# EAGLE library part XC9572XL (library lightuino3.lbrlightuino3.1)
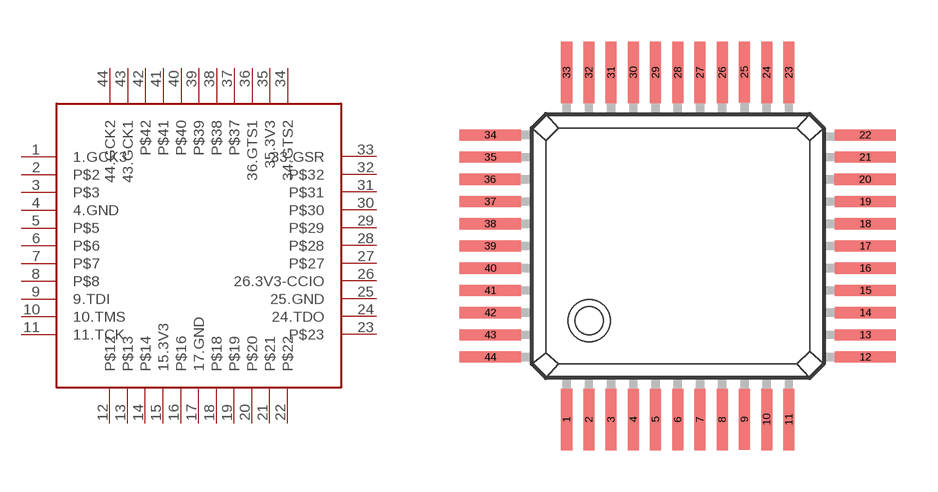
[diagram p9: symbol with the pads of QFP-44; footprint QFP-44]

Designator prefix -

## XC9572XL  [QFP-44]
1  1.GCK3
2  P$2
3  P$3
4  4.GND
5  P$5
6  P$6
7  P$7
8  P$8
9  9.TDI
10  10.TMS
11  11.TCK
12  P$12
13  P$13
14  P$14
15  15.3V3
16  P$16
17  17.GND
18  P$18
19  P$19
20  P$20
21  P$21
22  P$22
23  P$23
24  24.TDO
25  25.GND
26  26.3V3-CCIO
27  P$27
28  P$28
29  P$29
30  P$30
31  P$31
32  P$32
33  33.GSR
34  34.GTS2
35  35.3V3
36  36.GTS1
37  P$37
38  P$38
39  P$39
40  P$40
41  P$41
42  P$42
43  43.GCK1
44  44.GCK2

## Footprint QFP-44 (pad centres in mm)
Quad Flat Package
smd 0.4 x 2.2: 1 -4,-6.25; 2 -3.2,-6.25; 3 -2.4,-6.25; 4 -1.6,-6.25; 5 -0.8,-6.25; 6 0,-6.25; 7 0.8,-6.25; 8 1.6,-6.25; 9 2.4,-6.24; 10 3.2,-6.25; 11 4,-6.25; 23 4,6.25; 24 3.2,6.25; 25 2.4,6.26; 26 1.6,6.25; 27 0.8,6.25; 28 0,6.25; 29 -0.8,6.25; 30 -1.6,6.25; 31 -2.4,6.25; 32 -3.2,6.25; 33 -4,6.25
smd 2.2 x 0.4: 12 6.75,-4; 13 6.75,-3.2; 14 6.75,-2.4; 15 6.75,-1.6; 16 6.75,-0.8; 17 6.75,0; 18 6.75,0.8; 19 6.75,1.6; 20 6.74,2.4; 21 6.75,3.2; 22 6.75,4; 34 -6.75,4; 35 -6.75,3.2; 36 -6.76,2.4; 37 -6.75,1.6; 38 -6.75,0.8; 39 -6.75,0; 40 -6.75,-0.8; 41 -6.75,-1.6; 42 -6.75,-2.4; 43 -6.75,-3.2; 44 -6.75,-4